# Altium schematic symbol library YGT_01.SchLib: 2 symbols
Pins are listed as number, name and electrical type; pins without a type are passive.

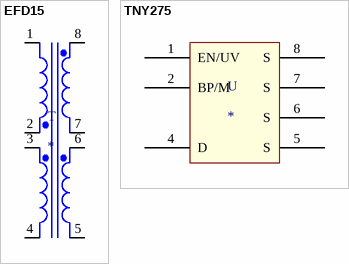
[diagram p0: symbols EFD15 to TNY275]

## EFD15
designator T
footprint EFD15_DIP8
pins: 1 Pri1+, 2 Pri1-, 3 Pri2+, 4 Pri2-, 5 Sec2-, 6 Sec2+, 7 Sec1-, 8 Sec1+

## TNY275
designator U
pins: 1 EN/UV, 2 BP/M, 4 D, 5 S, 6 S, 7 S, 8 S